# Altium schematic symbol library LED.SchLib: 3 symbols
Pins are listed as number, name and electrical type; pins without a type are passive.

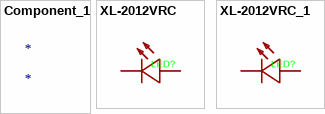
[diagram p0: symbols Component_1 to XL-2012VRC_1]

## Component_1
designator *

## XL-2012VRC
designator LED?  (value not drawn)
5mA Red Lens 615nm~630nm Positive Stick Red 120° 0805 LED Indication - Discrete ROHS; Manufacturer: XINGLIGHT; Add into BOM: yes; Symbol: XL-2012VRC; Device: XL-2012VRC; LCSC Part Name: XL-2012VRC; Supplier Part: C7371913; Manufacturer Part: XL-2012VRC; Supplier Footprint: 0805; JLCPCB Part Class: Extended Part; Supplier: LCSC; Convert to PCB: yes; Emitted Color: Red; Diode Configuration: -; Lens Color: RED; Color Temperature: -; Mounting Sytle: -; Operating Temperature: -55℃~+85℃
footprint LED0805-R-RD
3D model LED0805-RD
pins: 1 +, 2 -

## XL-2012VRC_1
designator LED?, comment XL-2012VRC  (value not drawn)
5mA Red Lens 615nm~630nm Positive Stick Red 120° 0805 LED Indication - Discrete ROHS; Manufacturer: XINGLIGHT; Add into BOM: yes; Symbol: XL-2012VRC; Device: XL-2012VRC; LCSC Part Name: XL-2012VRC; Supplier Part: C7371913; Manufacturer Part: XL-2012VRC; Supplier Footprint: 0805; JLCPCB Part Class: Extended Part; Supplier: LCSC; Convert to PCB: yes; Emitted Color: Red; Diode Configuration: -; Lens Color: RED; Color Temperature: -; Mounting Sytle: -; Operating Temperature: -55℃~+85℃
footprint LED0805-R-RD
3D model LED0805-RD
pins: 1 +, 2 -